# Altium footprint library Wurth_Elektronik_Passive_rev16a.PCBLIB: 810 footprints (part 9 of 51)
Each footprint in its own frame and in the unit in brackets; x right, y up, seen from the top. Pads: shape width x height; smd on the part's side, far side on the other; paste and mask are expansions set on the pad; w line width, h text height; cw(c..) or ccw(c..) is an arc to the next point about the centre after c.
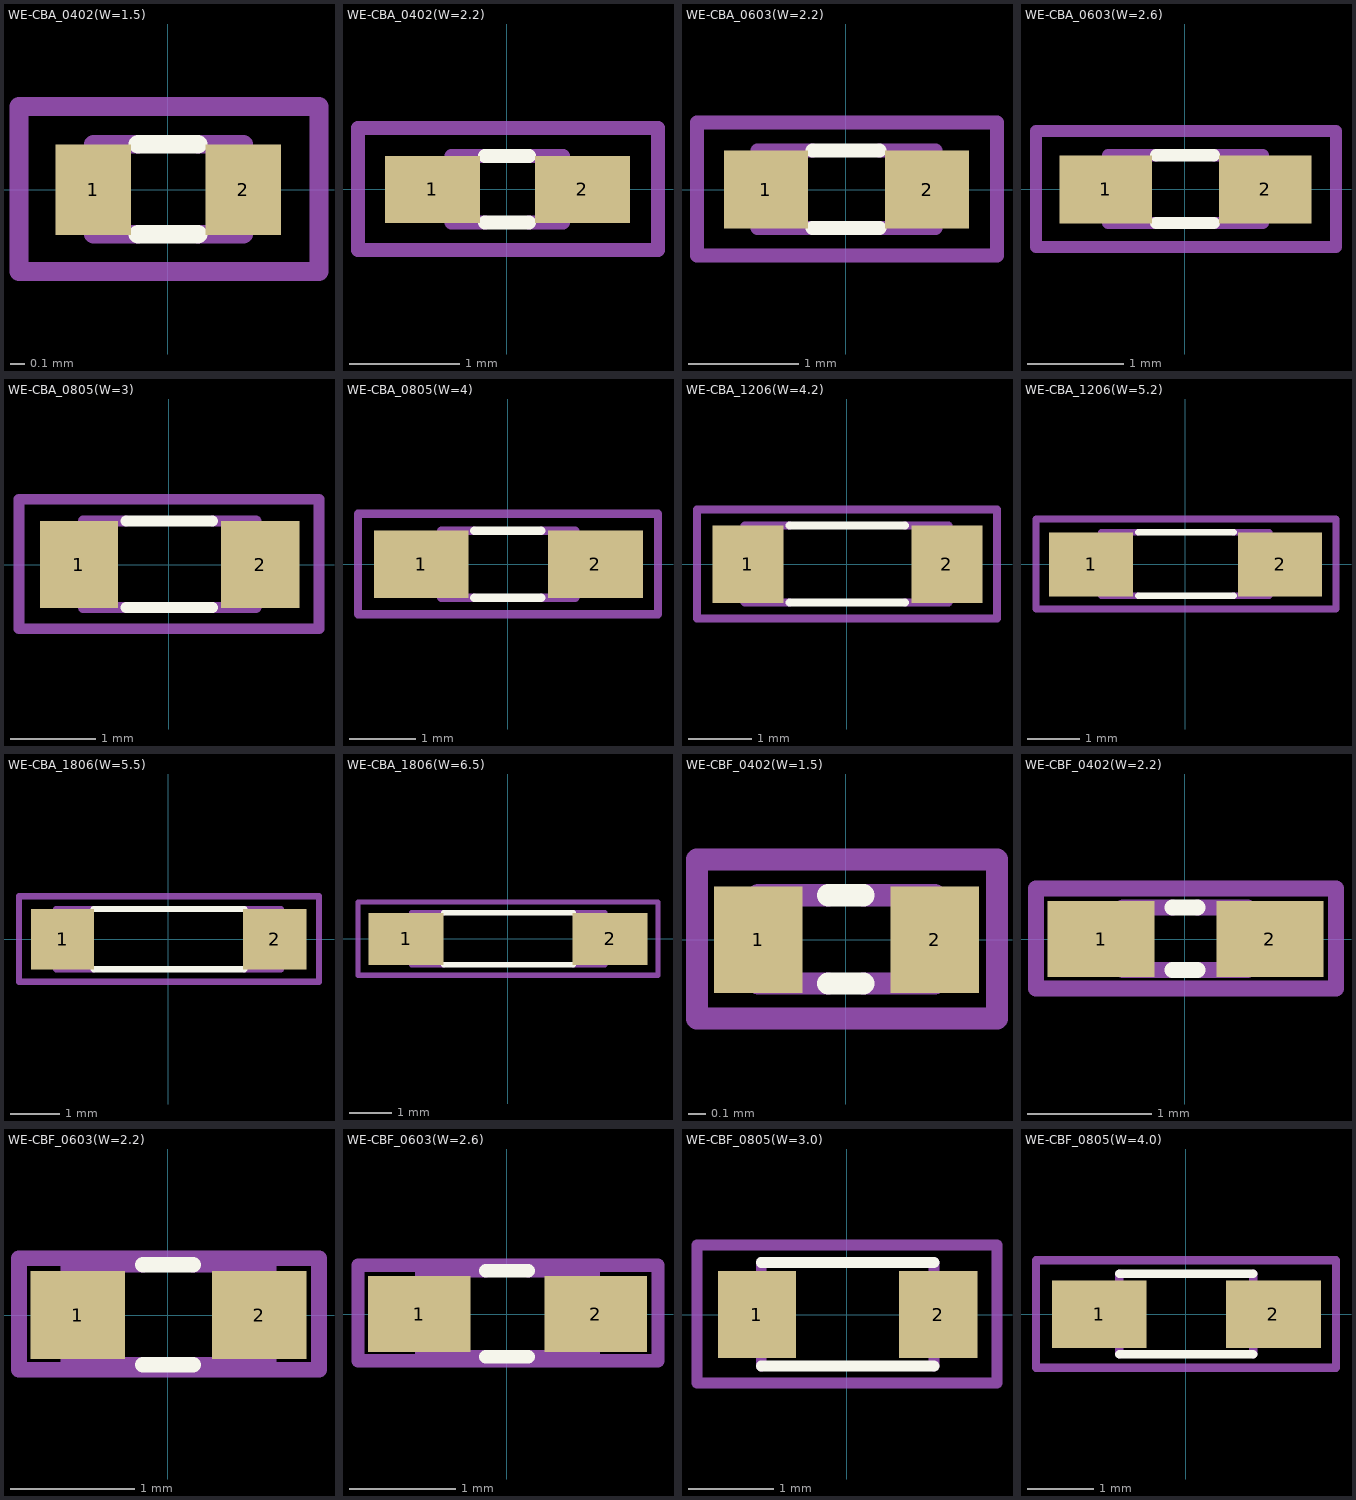
[diagram p8: the footprints below, top view; thin cyan lines are the x and y axes]

## WE-CBA_0402(W=1.5) [mil]
pads (2):
  rect 20x24 smd: 1(-19.68,0) 2(20,0)
Top Overlay:
  lines w5: -7.87,-11.81 8,-11.81 ; -7.87,12 8,12
Mechanical 2:
  text ">NAME" at -31.5,32 h24.8
Mechanical 4:
  text ">VALUE" at -31.5,-55.12 h24.8
Mechanical 16:
  lines w5: -7.87,-11.81 -19.68,-11.81 -19.68,12 -7.87,12 ; 8,-11.81 20,-11.81 20,12 8,12
Mechanical 27:
  lines w5: -39.37,-21.65 40,-21.65 40,22 -39.37,22 -39.37,-21.65

## WE-CBA_0402(W=2.2) [mil]
pads (2):
  rect 34x24 smd: 1(-26.57,0) 2(27,0)
Top Overlay:
  lines w5: -7.87,-11.81 8,-11.81 ; -7.87,12 8,12
Mechanical 2:
  text ">NAME" at -47.24,32 h24.8
Mechanical 4:
  text ">VALUE" at -43.31,-43.31 h24.8
Mechanical 16:
  lines w5: -7.87,-11.81 -19.68,-11.81 -19.68,12 -7.87,12 ; 8,-11.81 20,-11.81 20,12 8,12
Mechanical 27:
  lines w5: -53.15,-21.65 54,-21.65 54,22 -53.15,22 -53.15,-21.65

## WE-CBA_0603(W=2.2) [mil]
pads (2):
  rect 30x28 smd: 1(-28.54,0) 2(29,0)
Top Overlay:
  lines w5: -11.81,-13.78 12,-13.78 ; -11.81,14 12,14
Mechanical 2:
  text ">NAME" at -47.24,32 h24.8
Mechanical 4:
  text ">VALUE" at -47.24,-55.12 h24.8
Mechanical 16:
  lines w5: -11.81,-13.78 -31.5,-13.78 -31.5,14 -11.81,14 ; 12,-13.78 32,-13.78 32,14 12,14
Mechanical 27:
  lines w5: -53.15,-23.62 54,-23.62 54,24 -53.15,24 -53.15,-23.62

## WE-CBA_0603(W=2.6) [mil]
pads (2):
  rect 38x28 smd: 1(-32.48,0) 2(33,0)
Top Overlay:
  lines w5: -11.81,-13.78 12,-13.78 ; -11.81,14 12,14
Mechanical 2:
  text ">NAME" at -47.24,32 h24.8
Mechanical 4:
  text ">VALUE" at -47.24,-55.12 h24.8
Mechanical 16:
  lines w5: -11.81,-13.78 -31.5,-13.78 -31.5,14 -11.81,14 ; 12,-13.78 32,-13.78 32,14 12,14
Mechanical 27:
  lines w5: -61.02,-23.62 62,-23.62 62,24 -61.02,24 -61.02,-23.62

## WE-CBA_0805(W=3) [mil]
pads (2):
  rect 36x40 smd: 1(-41.34,0) 2(42,0)
Top Overlay:
  lines w5: -19.68,-19.68 20,-19.68 ; -19.68,20 20,20
Mechanical 2:
  text ">NAME" at -59.06,48 h24.8
Mechanical 4:
  text ">VALUE" at -59.06,-62.99 h24.8
Mechanical 16:
  lines w5: -19.68,-19.68 -39.37,-19.68 -39.37,20 -19.68,20 ; 20,-19.68 40,-19.68 40,20 20,20
Mechanical 27:
  lines w5: -68.9,-29.53 69,-29.53 69,30 -68.9,30 -68.9,-29.53

## WE-CBA_0805(W=4) [mil]
pads (2):
  rect 56x40 smd: 1(-51.18,0) 2(52,0)
Top Overlay:
  lines w5: -19.68,-19.68 20,-19.68 ; -19.68,20 20,20
Mechanical 2:
  text ">NAME" at -78.74,48 h24.8
Mechanical 4:
  text ">VALUE" at -78.74,-62.99 h24.8
Mechanical 16:
  lines w5: -19.68,-19.68 -39.37,-19.68 -39.37,20 -19.68,20 ; 20,-19.68 40,-19.68 40,20 20,20
Mechanical 27:
  lines w5: -88.58,-29.53 89,-29.53 89,30 -88.58,30 -88.58,-29.53

## WE-CBA_1206(W=4.2) [mil]
pads (2):
  rect 44x48 smd: 1(-61.02,0) 2(62,0)
Top Overlay:
  lines w5: -35.43,-23.62 36,-23.62 ; -35.43,24 36,24
Mechanical 2:
  text ">NAME" at -82.68,48 h24.8
Mechanical 4:
  text ">VALUE" at -82.68,-62.99 h24.8
Mechanical 16:
  lines w5: -35.43,-23.62 -62.99,-23.62 -62.99,24 -35.43,24 ; 36,-23.62 63,-23.62 63,24 36,24
Mechanical 27:
  lines w5: -92.52,-33.46 93,-33.46 93,34 -92.52,34 -92.52,-33.46

## WE-CBA_1206(W=5.2) [mil]
pads (2):
  rect 63x48 smd: 1(-70.87,0) 2(71,0)
Top Overlay:
  lines w5: -35.43,-23.62 36,-23.62 ; -35.43,24 36,24
Mechanical 2:
  text ">NAME" at -102.36,48 h24.8
Mechanical 4:
  text ">VALUE" at -102.36,-62.99 h24.8
Mechanical 16:
  lines w5: -35.43,-23.62 -62.99,-23.62 -62.99,24 -35.43,24 ; 36,-23.62 63,-23.62 63,24 36,24
Mechanical 27:
  lines w5: -112.2,-33.46 113,-33.46 113,34 -112.2,34 -112.2,-33.46

## WE-CBA_1806(W=5.5) [mil]
pads (2):
  rect 50x48 smd: 1(-83.66,0) 2(84,0)
Top Overlay:
  lines w5: -59.06,-23.62 60,-23.62 ; -59.06,24 60,24
Mechanical 2:
  text ">NAME" at -118.11,48 h24.8
Mechanical 4:
  text ">VALUE" at -118.11,-62.99 h24.8
Mechanical 16:
  lines w5: -59.06,-23.62 -88.58,-23.62 -88.58,24 -59.06,24 ; 60,-23.62 89,-23.62 89,24 60,24
Mechanical 27:
  lines w5: -118.11,-33.46 119,-33.46 119,34 -118.11,34 -118.11,-33.46

## WE-CBA_1806(W=6.5) [mil]
pads (2):
  rect 69x48 smd: 1(-93.5,0) 2(94,0)
Top Overlay:
  lines w5: -59.06,-23.62 60,-23.62 ; -59.06,24 60,24
Mechanical 2:
  text ">NAME" at -127.95,48 h24.8
Mechanical 4:
  text ">VALUE" at -127.95,-62.99 h24.8
Mechanical 16:
  lines w5: -59.06,-23.62 -88.58,-23.62 -88.58,24 -59.06,24 ; 60,-23.62 89,-23.62 89,24 60,24
Mechanical 27:
  lines w5: -137.8,-33.46 138,-33.46 138,34 -137.8,34 -137.8,-33.46

## WE-CBF_0402(W=1.5) [mil]
pads (2):
  rect 20x24 smd: 1(-19.68,0) 2(20,0)
Top Overlay:
  lines w5: -3.94,-9.84 4,-9.84 ; -3.94,10 4,10
Mechanical 2:
  text ">NAME" at -38.19,25 h9.3
Mechanical 4:
  text ">VALUE" at -35.43,-28.74 h9.3
Mechanical 16:
  lines w5: -3.94,-9.84 -19.68,-9.84 -19.68,10 -3.94,10 ; 4,-9.84 20,-9.84 20,10 4,10
Mechanical 27:
  lines w5: -33.46,-17.72 -33.46,18 34,18 34,-17.72 -33.46,-17.72

## WE-CBF_0402(W=2.2) [mil]
pads (2):
  rect 34x24 smd: 1(-26.57,0) 2(27,0)
Top Overlay:
  lines w5: -3.94,-9.84 4,-9.84 ; -3.94,10 4,10
Mechanical 2:
  text ">NAME" at -26.38,31 h15.5
Mechanical 4:
  text ">VALUE" at -26.38,-30.32 h15.5
Mechanical 16:
  lines w5: -3.94,-9.84 -19.68,-9.84 -19.68,10 -3.94,10 ; 4,-9.84 20,-9.84 20,10 4,10
Mechanical 27:
  lines w5: -47.24,-15.75 -47.24,16 48,16 48,-15.75 -47.24,-15.75

## WE-CBF_0603(W=2.2) [mil]
pads (2):
  rect 30x28 smd: 1(-28.54,0) 2(29,0)
Top Overlay:
  lines w5: -7.87,-15.75 8,-15.75 ; -7.87,16 8,16
Mechanical 2:
  text ">NAME" at -50,27 h15.5
Mechanical 4:
  text ">VALUE" at -50,-50 h15.5
Mechanical 16:
  lines w5: -7.87,-15.75 -31.5,-15.75 -31.5,16 -7.87,16 ; 8,-15.75 32,-15.75 32,16 8,16
Mechanical 27:
  lines w5: -47.24,-17.32 48,-17.32 48,18 -47.24,18 -47.24,-17.32

## WE-CBF_0603(W=2.6) [mil]
pads (2):
  rect 38x28 smd: 1(-32.48,0) 2(33,0)
Top Overlay:
  lines w5: -7.87,-15.75 8,-15.75 ; -7.87,16 8,16
Mechanical 2:
  text ">NAME" at -61.81,27 h15.5
Mechanical 4:
  text ">VALUE" at -61.81,-38.19 h15.5
Mechanical 16:
  lines w5: -7.87,-15.75 -31.5,-15.75 -31.5,16 -7.87,16 ; 8,-15.75 32,-15.75 32,16 8,16
Mechanical 27:
  lines w5: -55.12,-17.32 -55.12,18 56,18 56,-17.32 -55.12,-17.32

## WE-CBF_0805(W=3.0) [mil]
pads (2):
  rect 36x40 smd: 1(-41.34,0) 2(42,0)
Top Overlay:
  lines w5: -39.37,-23.62 40,-23.62 ; -39.37,24 40,24
Mechanical 2:
  text ">NAME" at -61.81,43 h15.5
Mechanical 4:
  text ">VALUE" at -57.87,-50 h15.5
Mechanical 16:
  lines w5: -39.37,-23.62 -39.37,24 ; 40,-23.62 40,24
Mechanical 27:
  lines w5: -68.9,-31.5 -68.9,32 69,32 69,-31.5 -68.9,-31.5

## WE-CBF_0805(W=4.0) [mil]
pads (2):
  rect 56x40 smd: 1(-51.18,0) 2(52,0)
Top Overlay:
  lines w5: -39.37,-23.62 40,-23.62 ; -39.37,24 40,24
Mechanical 2:
  text ">NAME" at -50,50 h15.5
Mechanical 4:
  text ">VALUE" at -50,-50 h15.5
Mechanical 16:
  lines w5: -39.37,-23.62 -39.37,24 ; 40,-23.62 40,24
Mechanical 27:
  lines w5: -88.58,-31.5 -88.58,32 89,32 89,-31.5 -88.58,-31.5